# EAGLE library part ADG1604 (library Spectron2)
1 Ù Typical On Resistance, ±5 V,+12 V, +5 V, and +3.3 V, 4:1 Multiplexer
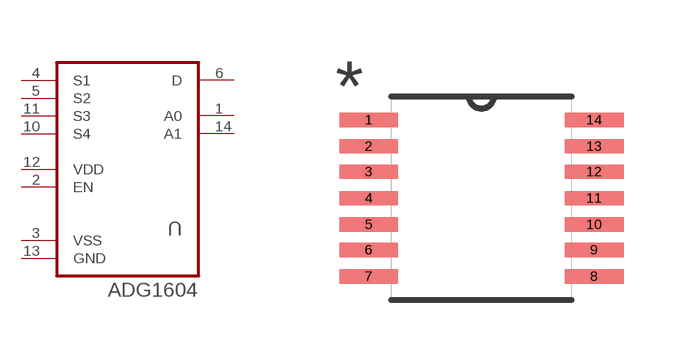
[diagram p3: symbol with the pads of SOP65P640X120-14N; footprint SOP65P640X120-14N]

Designator prefix U

## ADG1604 (MPN: ADG1604BRUZ; OC_FARNELL: 1827326; OC_NEWARK: 71P7802; PACKAGE: TSSOP-14; SUPPLIER: Analog Devices)  [SOP65P640X120-14N]
1  A0  in
2  EN  in
3  VSS  pwr
4  S1
5  S2
6  D
10  S4
11  S3
12  VDD  pwr
13  GND  pas
14  A1  in

## Footprint SOP65P640X120-14N (pad centres in mm)
smd 1.473 x 0.356: 1 -2.819,1.956; 2 -2.819,1.295; 3 -2.819,0.66; 4 -2.819,0; 5 -2.819,-0.66; 6 -2.819,-1.295; 7 -2.819,-1.956; 8 2.819,-1.956; 9 2.819,-1.295; 10 2.819,-0.66; 11 2.819,0; 12 2.819,0.66; 13 2.819,1.295; 14 2.819,1.956